# EAGLE library part RLP434 (library MCE_Modulos)
Receptor de RF a 433.92MHz de la empresa LAIPAC - RLP434
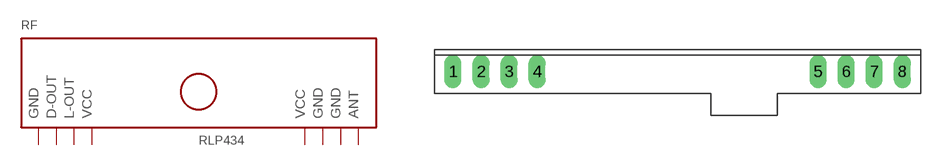
[diagram p0: symbol with the pads of RLP434; footprint RLP434]

Designator prefix RF

## RLP434  [RLP434]
1  GND  pwr
2  D-OUT  out
3  L-OUT  out
4  VCC  pwr
5  VCC1  pwr
6  GND1  pwr
7  GND2  pwr
8  ANT  in

## Footprint RLP434 (pad centres in mm)
Receptor de RF a 433.92MHz de la empresa LAIPAC - RLP434
drill 1.016 long: 1 -20.32,0; 2 -17.78,0; 3 -15.24,0; 4 -12.7,0; 5 12.7,0; 6 15.24,0; 7 17.78,0; 8 20.32,0